# EAGLE library part 75867_131LF (library con-fci)
6 Positions Header, Shrouded Connector 0.100"
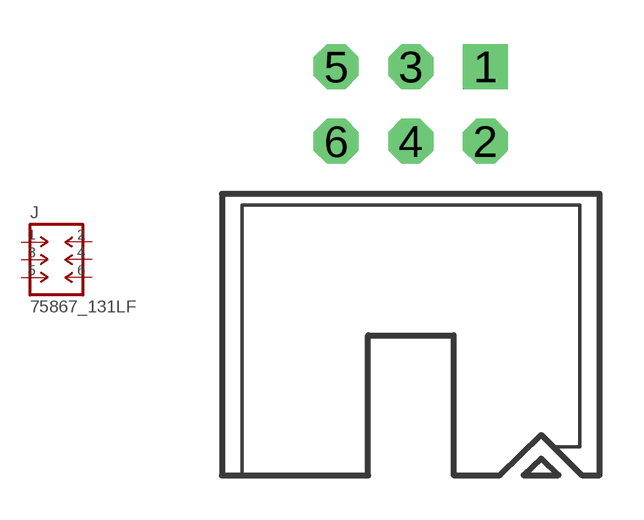
[diagram p4: symbol with the pads of M2X03_100MIL_RA; footprint M2X03_100MIL_RA]

Designator prefix J

## 75867_131LF (DIGIKEY: 609-2846-ND; MFR: Amphenol; MPN: 75867-131LF)  [M2X03_100MIL_RA]
1  1  pas
2  2  pas
3  3  pas
4  4  pas
5  5  pas
6  6  pas

## Footprint M2X03_100MIL_RA (pad centres in mm)
drill 1.02 square: 1 2.54,1.27
drill 1.02 octagon: 2 2.54,-1.27; 3 0,1.27; 4 0,-1.27; 5 -2.54,1.27; 6 -2.54,-1.27